# Altium footprint library Buttons.PcbLib: 37 footprints (part 1 of 3)
Each footprint in its own frame and in the unit in brackets; x right, y up, seen from the top. Pads: shape width x height; smd on the part's side, far side on the other; paste and mask are expansions set on the pad; w line width, h text height; cw(c..) or ccw(c..) is an arc to the next point about the centre after c.
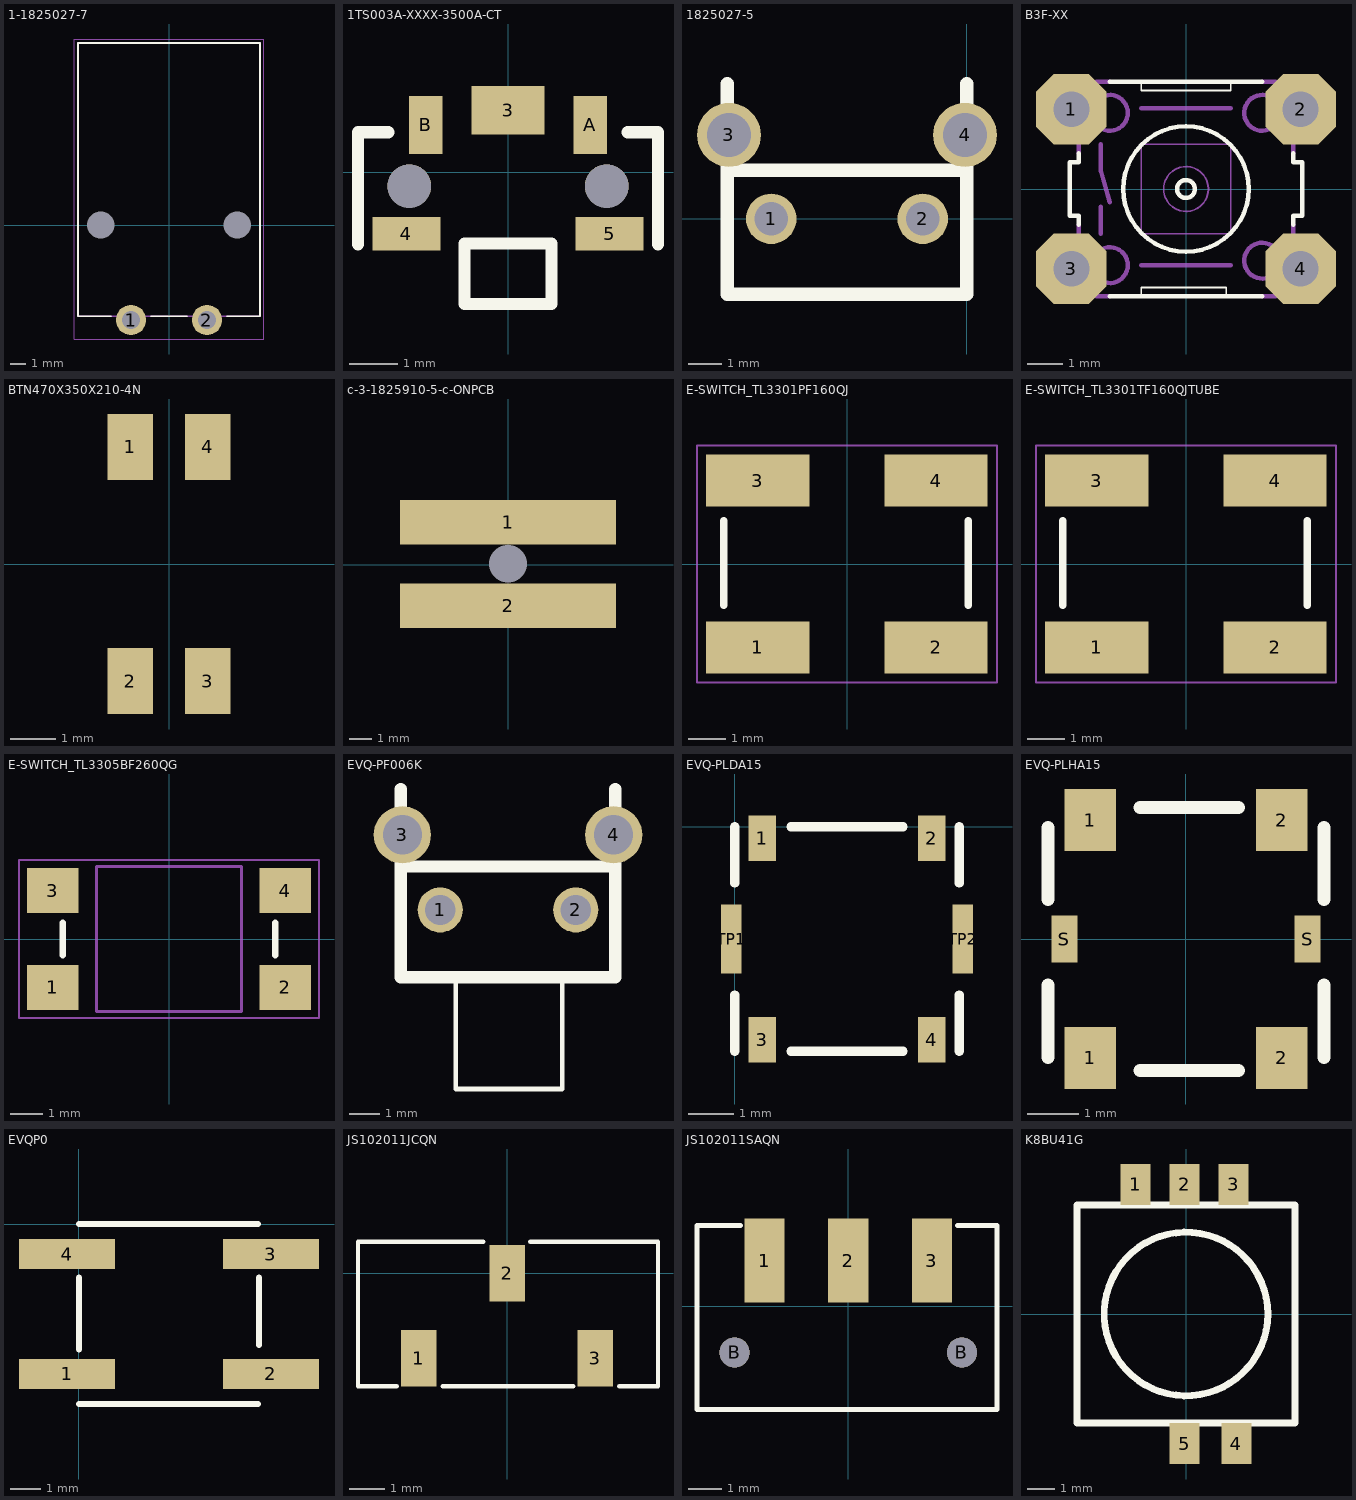
[diagram p0: the footprints below, top view; thin cyan lines are the x and y axes]

## 1-1825027-7 [mm]
pads (4):
  round 2 hole 1.2 mask+0.14: 1(-2.5,-6.25) 2(2.5,-6.25)
  round 0 hole 1.8 unplated mask+0.14: MH(-4.5,0) MH(4.5,0)
Top Overlay:
  lines w0.127: -3.8,-6 -6,-6 -6,12 6,12 6,-6 3.8,-6 ; -1.2,-6 1.2,-6
Mechanical 1:
  lines w0.1: -6,-6 -6,12 6,12 6,-6 -6,-6
Mechanical 15:
  lines w0.05: -6.25,-7.5 6.25,-7.5 6.25,12.25 -6.25,12.25 -6.25,-7.5
3D body "b3j-1300.stp": height 10.3, standoff -3.5, extent -6,-6.9 6,12

## 1TS003A-XXXX-3500A-CT [mm]
pads (7):
  rect 1.5x1 smd: 3(0,1.275)
  rect 1.4x0.7 smd: 4(-2.1,-1.275) 5(2.1,-1.275)
  rect 0.7x1.2 smd: A(1.7,0.975) B(-1.7,0.975)
  round 0.9 hole 0.9 unplated: ""(-2.04,-0.29) ""(2.04,-0.29)
Top Overlay:
  lines w0.254: -3.1,-1.49 -3.1,0.825 -2.475,0.825 ; -0.9,-1.525 -0.9,-2.725 0.9,-2.725 0.9,-1.525 ; -0.9,-1.475 0.9,-1.475 ; 2.475,0.825 3.1,0.825 3.1,-1.491
3D body "1TS003B.step": height 1.9, standoff -0.4, extent -2.35,-2.4 2.35,1.25

## 1825027-5 [mm]
pads (4):
  round 1.5 hole 1 mask+0.14: 1(-5.807,0) 2(-1.307,0)
  round 1.9 hole 1.3 mask+0.14: 3(-7.062,2.49) 4(-0.052,2.49)
Top Overlay:
  lines w0.14: -7.112,-2.24 -7.112,1.44 -0.002,1.44 -0.002,-2.24 -7.112,-2.24
  lines w0.41: -7.112,1.44 0,1.44 0,-2.24 -7.112,-2.24 -7.112,0 -7.112,4.01 ; 0,0 0,4.01
3D body "SW3dPS-SWITCH3.15MM ACTUATOR.STEP": height 7.01, standoff -3.99, extent -7.256,-3.175 0.144,4.125

## B3F-XX [mil]
pads (4):
  oct 79x79 hole 40: 1(-128,89) 2(128,89) 3(-128,-89) 4(128,-89)
Top Overlay:
  circle w5: c0,0 r10
  circle w5: c0,0 r70
  lines w2: -50,-120 -50,-110 45,-110 45,-120 ; -50,120 -50,110 50,110 50,120
  lines w5: -120,-40 -120,-30 -130,-30 -130,30 -120,30 -120,40 ; -85,-120 -50,-120 45,-120 85,-120 ; -85,120 -50,120 50,120 85,120 ; 120,-40 120,-30 130,-30 130,30 120,30 120,40
Mechanical 16:
  circle w2: c0,0 r25
  circle w5: c-85,85 r20
  circle w5: c85,85 r20
  circle w5: c85,-80 r20
  circle w5: c-85,-85 r20
  lines w2: -50,-50 50,-50 50,50 -50,50 -50,-50
  lines w5: -120,-40 -120,-100 -100,-120 -85,-120 ; -120,40 -120,100 -100,120 -85,120 ; -95,-50 -95,-20 ; -95,50 -95,20 -85,-15 ; -50,-85 50,-85 ; -50,90 50,90 ; 85,-120 100,-120 120,-100 120,-40 ; 85,120 100,120 120,100 120,40
  text "4" at 140,-110 h77.5
  text "3" at -180,-110 h77.5
  text "2" at 140,60 h77.5
  text "1" at -170,65 h77.5

## BTN470X350X210-4N [mm]
pads (4):
  rect 1x1.45 smd: 1(-0.85,2.575) 2(-0.85,-2.575) 3(0.85,-2.575) 4(0.85,2.575)
3D body: height 2.1, standoff 1.65, extent -1,-1.3 1,1.3
3D body: height 1.65, standoff 0.01, extent -1.75,-2.35 1.75,2.35

## c-3-1825910-5-c-ONPCB [mm]
pads (3):
  rect 0x0 hole 1.7 square unplated: 0(0,0.038)
  rect 9.7x2 smd: 1(0,1.905) 2(0,-1.854)
3D body: height 15, standoff -1.6, extent -4.763,-0.762 4.763,0.838
3D body "c-3-1825910-5-c-3d.stp": height 13.99, standoff 8.01, extent -3.91,-9.307 3.889,2.703

## E-SWITCH_TL3301PF160QJ [mm]
height 7.11
pads (4):
  rect 2.785x1.4 smd: 1(-2.408,-2.25) 2(2.408,-2.25) 3(-2.408,2.25) 4(2.408,2.25)
Top Overlay:
  lines w0.2: -3.327,-1.118 -3.327,1.168 ; 3.277,-1.118 3.277,1.168
Mechanical 15:
  lines w0.05: -4.05,-3.2 -4.05,3.2 4.05,3.2 4.05,-3.2 -4.05,-3.2
3D body "TL3301PFxxxxJ.stp": height 8.82, standoff 0.02, extent -3.326,-2.975 3.276,3.025

## E-SWITCH_TL3301TF160QJTUBE [mm] "SWITCH TACTILE SPST-NO 0.05A 12V-PLUNGER CAP-2.4mm"
height 7.11
pads (4):
  rect 2.785x1.4 smd: 1(-2.408,-2.25) 2(2.408,-2.25) 3(-2.408,2.25) 4(2.408,2.25)
Top Overlay:
  lines w0.2: -3.327,-1.118 -3.327,1.168 ; 3.277,-1.118 3.277,1.168
Mechanical 15:
  lines w0.05: -4.05,-3.2 4.05,-3.2 4.05,3.2 -4.05,3.2 -4.05,-3.2
3D body "TL3301TFxxxxJ.stp": height 7.82, standoff 0.02, extent -3.3,-3 3.3,3

## E-SWITCH_TL3305BF260QG [mm] "SWITCH TACTILE SPST-NO 0.05A 12V"
height 7.11
pads (4):
  rect 1.6x1.4 smd: 1(-3.6,-1.5) 2(3.6,-1.5) 3(-3.6,1.5) 4(3.6,1.5)
Top Overlay:
  lines w0.2: -3.3,-0.5 -3.3,0.5 ; 3.3,-0.5 3.3,0.5
Mechanical 1:
  lines w0.1: -2.25,-2.25 -2.25,2.25 2.25,2.25 2.25,-2.25 -2.25,-2.25
Mechanical 15:
  lines w0.05: -4.65,-2.45 4.65,-2.45 4.65,2.45 -4.65,2.45 -4.65,-2.45
3D body "TL3305BFxxxxG.stp": height 5, standoff 0, extent -3.75,-2.25 3.75,2.25

## EVQ-PF006K [mm]
pads (4):
  round 1.5 hole 1 mask+0.14: 1(18.399,-9.703) 2(22.899,-9.703)
  round 1.9 hole 1.3 mask+0.14: 3(17.144,-7.213) 4(24.154,-7.213)
Top Overlay:
  lines w0.14: 17.094,-11.943 24.204,-11.943 24.204,-8.263 17.094,-8.263 17.094,-11.943
  lines w0.15: 18.923,-11.989 18.923,-15.646 22.454,-15.646 22.454,-11.943
  lines w0.41: 17.094,-8.263 24.206,-8.263 24.206,-11.943 17.094,-11.943 17.094,-9.703 17.094,-5.693 ; 24.206,-9.703 24.206,-5.693
3D body "EVQPF006K.STEP": height 7.41, standoff -3.49, extent 16.386,-15.589 24.968,-5.739

## EVQ-PLDA15 [mm]
pads (6):
  rect 0.6x1 smd mask+0.14: 1(0.6,-0.25) 2(4.3,-0.25) 3(0.6,-4.65) 4(4.3,-4.65)
  rect 0.45x1.5 smd mask+0.14: TP1(-0.075,-2.45) TP2(4.975,-2.45)
Top Overlay:
  lines w0.2: 0,-4.9 0,-3.675 ; 0,-1.225 0,0 ; 1.225,-4.9 3.675,-4.9 ; 1.225,0 3.675,0 ; 4.9,-4.9 4.9,-3.675 ; 4.9,-1.225 4.9,0
3D body "EVQ-PLD_PLH_PLM_3PL_PT5_PT9-A15.STEP": height 1.51, standoff 0.01, extent 0.014,-4.913 4.914,0.087

## EVQ-PLHA15 [mm]
pads (6):
  rect 1x1.2 smd: 1(-1.85,-2.3) 1(-1.85,2.3) 2(1.85,-2.3) 2(1.85,2.3)
  rect 0.5x0.9 smd: S(-2.35,0) S(2.35,0)
Top Overlay:
  lines w0.254: -2.667,-2.286 -2.667,-0.889 ; -2.667,0.762 -2.667,2.159 ; -0.889,-2.54 1.016,-2.54 ; -0.889,2.54 1.016,2.54 ; 2.667,-2.286 2.667,-0.889 ; 2.667,0.762 2.667,2.159
3D body "EVQ-PLD_PLH_PLM_3PL_PT5_PT9-A15.STEP": height 1.5, standoff 0, extent -2.446,-2.539 2.454,2.461

## EVQP0 [mm]
pads (4):
  rect 3.2x1 smd mask+0.14: 1(-0.4,-5) 2(6.4,-5) 3(6.4,-1) 4(-0.4,-1)
Top Overlay:
  lines w0.2: 0,-6 4.033,-6 5.969,-6 ; 0,-4.191 0,-1.778 ; 0,0 5.969,0 ; 6,-4.033 6,-1.778
3D body "EVQP0-N02B_Q02Q.STEP": height 2.51, standoff 0.01, extent -0.252,-5.97 6.348,0.128

## JS102011JCQN [mm]
pads (3):
  rect 1x1.6 smd: 1(-2.5,-2.4) 2(0,0) 3(2.5,-2.4)
Top Overlay:
  lines w0.127: -3.125,-3.2 -4.225,-3.2 -4.225,0.9 -0.675,0.9 ; -1.825,-3.2 1.875,-3.2 ; 0.65,0.9 4.275,0.9 4.275,-3.2 3.175,-3.2
3D body "js102011jcqn.stp": height 5.61, standoff 0.01, extent -4.225,-3.21 4.275,0.89

## JS102011SAQN [mm]
pads (5):
  rect 1.2x2.5 smd: 1(-2.5,1.375) 2(0,1.375) 3(2.5,1.375)
  round 0.9 hole 0.9 unplated: B(-3.4,-1.375) B(3.4,-1.375)
Top Overlay:
  lines w0.15: -3.225,2.425 -4.525,2.425 -4.525,-3.075 4.45,-3.075 4.45,2.425 3.275,2.425
3D body "js102011saqn.stp": height 3.23, standoff -1.07, extent -4.55,-5.095 4.45,2.405

## K8BU41G [mm] "SWITCH TACTILE SPST-NO 0.05A 32V"
pads (5):
  rect 1.1x1.5 smd: 1(-1.85,4.75) 2(-0.05,4.75) 3(1.75,4.75) 4(1.85,-4.75) 5(-0.05,-4.75)
Top Overlay:
  circle w0.254: c0,0 r3
  lines w0.254: -4,-4 -4,0 -4,4 4,4 4,-4 -4,-4
3D body: height 9.23, standoff -7.3, extent -4,-4 -4,-4
3D body: height 9.23, standoff -7.3, extent -1,-1 -1,-1
3D body "K8BU41GLFS.stp": height 6.01, standoff -0.09, extent -4.2,-5.408 4.2,5.408